# Altium footprint library rcl_PTH.PCBLIB: 348 footprints (part 6 of 22)
Each footprint in its own frame and in the unit in brackets; x right, y up, seen from the top. Pads: shape width x height; smd on the part's side, far side on the other; paste and mask are expansions set on the pad; w line width, h text height; cw(c..) or ccw(c..) is an arc to the next point about the centre after c.
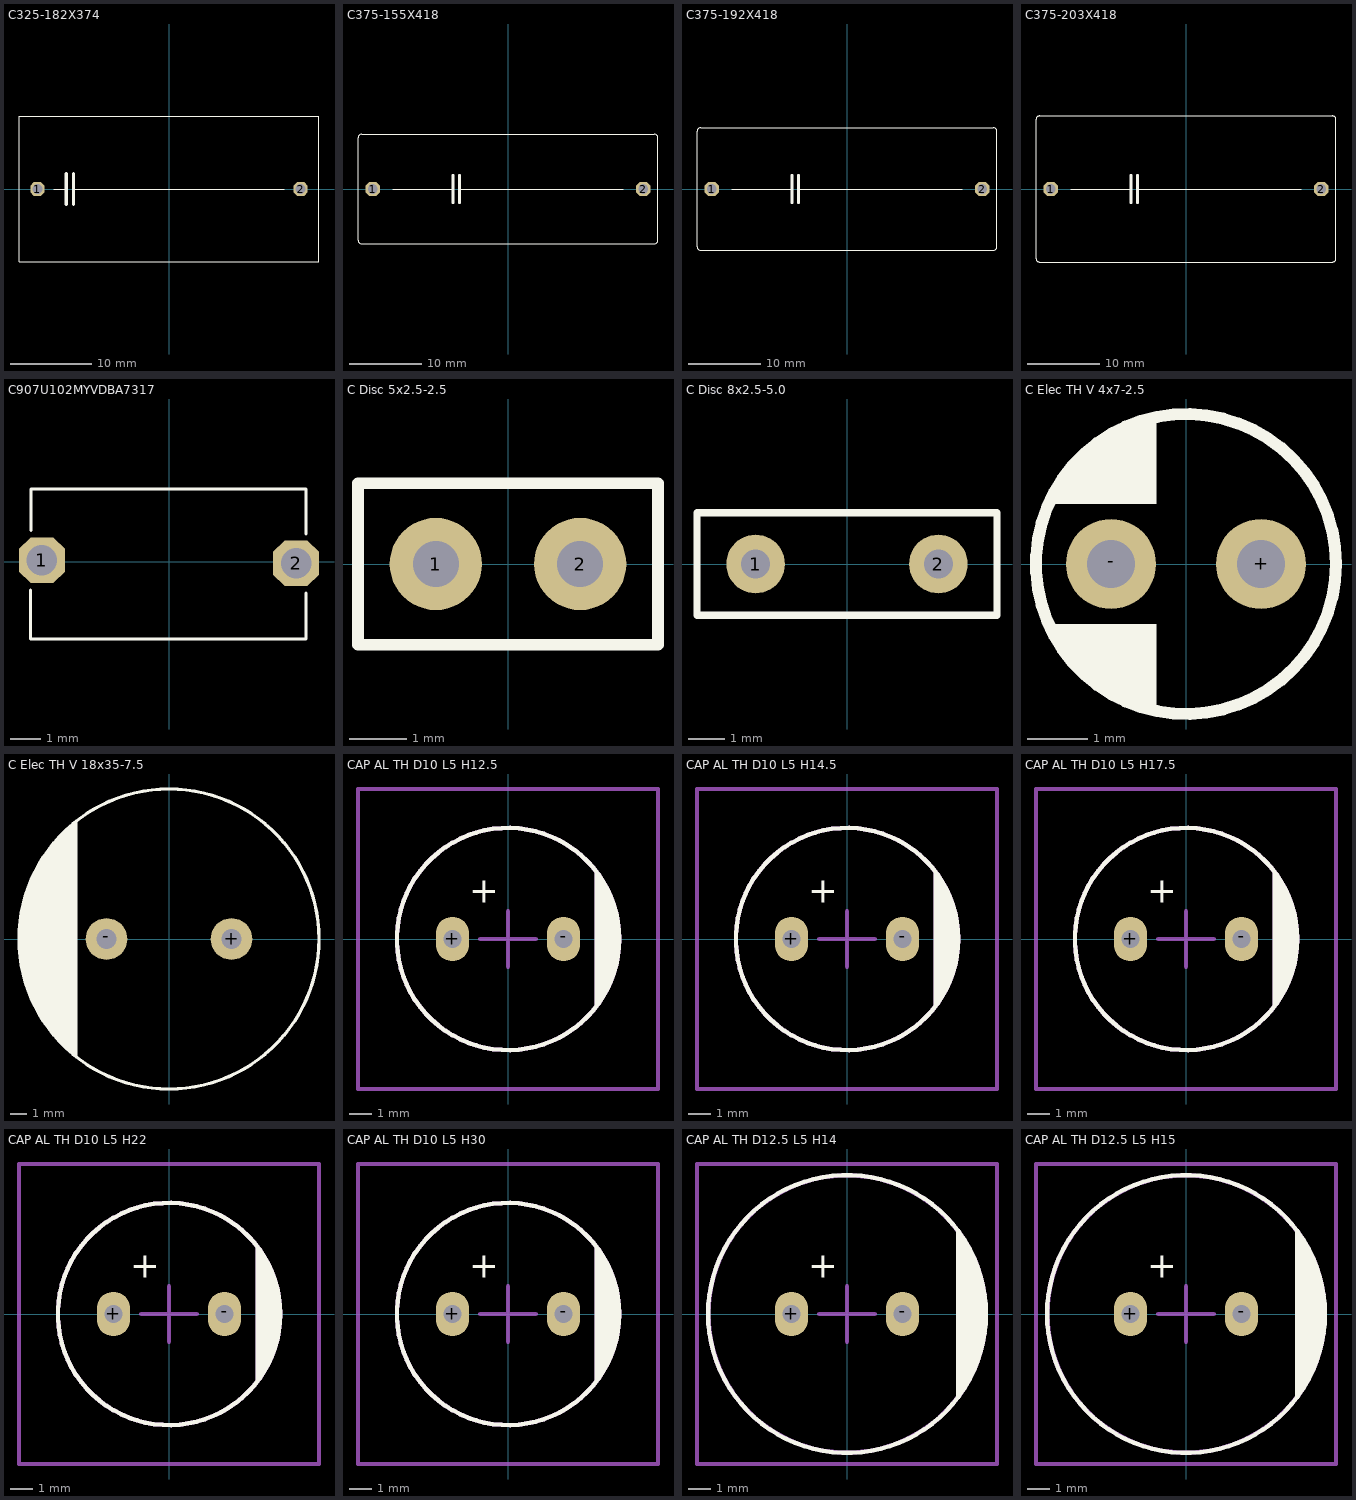
[diagram p5: the footprints below, top view; thin cyan lines are the x and y axes]

## C325-182X374 [mil]
pads (2):
  oct 70.5x70.5 hole 47: 1(-640,0) 2(640,0)
Top Overlay:
  lines w6: -562,0 -500,0 ; -465,0 562,0 ; -730,-355 730,-355 730,355 -730,355 -730,-355
  lines w16: -500,-75 -500,0 -500,75 ; -465,-75 -465,0 -465,75

## C375-155X418 [mil]
pads (2):
  oct 78x78 hole 52: 1(-740,0) 2(740,0)
Top Overlay:
  lines w6: -630,0 -300,0 ; -265,0 630,0 ; -820,-280 ccw(c-800,-280) -800,-300 800,-300 ccw(c800,-280) 820,-280 820,280 ccw(c800,280) 800,300 -800,300 ccw(c-800,280) -820,280 -820,-280
  lines w16: -300,-75 -300,0 -300,75 ; -265,-75 -265,0 -265,75

## C375-192X418 [mil]
pads (2):
  oct 78x78 hole 52: 1(-740,0) 2(740,0)
Top Overlay:
  lines w6: -630,0 -300,0 ; -265,0 630,0 ; -820,-315 ccw(c-800,-315) -800,-335 800,-335 ccw(c800,-315) 820,-315 820,315 ccw(c800,315) 800,335 -800,335 ccw(c-800,315) -820,315 -820,-315
  lines w16: -300,-75 -300,0 -300,75 ; -265,-75 -265,0 -265,75

## C375-203X418 [mil]
pads (2):
  oct 78x78 hole 52: 1(-740,0) 2(740,0)
Top Overlay:
  lines w6: -630,0 -300,0 ; -265,0 630,0 ; -820,-380 ccw(c-800,-380) -800,-400 800,-400 ccw(c800,-380) 820,-380 820,380 ccw(c800,380) 800,400 -800,400 ccw(c-800,380) -820,380 -820,-380
  lines w16: -300,-75 -300,0 -300,75 ; -265,-75 -265,0 -265,75

## C907U102MYVDBA7317 [mil]
pads (2):
  oct 60x60 hole 40: 1(-166.5,2) 2(166.5,-2)
Top Overlay:
  lines w3.94: -181.5,-37 -181.5,-101.52 179.5,-101.52 179.5,-41 ; -180.74,41 -180.74,95.52 179.5,95.52 179.5,36
3D body "C907U102MYVDBA7317.step": height 433.07, standoff -779.53, extent -180.74,-101.52 179.5,95.52

## C Disc 5x2.5-2.5 [mm] "C Disc 5x2.5-2.5"
height 5
pads (2):
  round 1.6 hole 0.8: 1(-1.25,0) 2(1.25,0)
Top Overlay:
  lines w0.2: -2.6,-1.4 -2.6,1.4 2.6,1.4 2.6,-1.4 -2.6,-1.4
3D body "C Disc 5x2.5-2.5-2.STEP": height 5.05, standoff -2.45, extent -2.495,-1.28 2.488,1.281

## C Disc 8x2.5-5.0 [mm] "C Disc 5x2.5-5.0"
height 11
pads (2):
  round 1.6 hole 0.8: 1(-2.5,0) 2(2.5,0)
Top Overlay:
  lines w0.2: -4.1,-1.4 4.1,-1.4 4.1,1.4 -4.1,1.4 -4.1,-1.4
3D body "C Disc 8x2.5-5.0.STEP": height 8.05, standoff -2.45, extent -3.993,-1.287 3.987,1.287

## C Elec TH V 4x7-2.5 [mm] "C Elec TH 4x7 2.5mm pitch"
height 8
pads (2):
  round 1.5 hole 0.8: +(1.25,0) -(-1.25,0)
Top Overlay:
  circle w0.2: c0,0 r2.5
  region: -0.5,-1 -2.2,-1 -2.2,-1.1 -2,-1.5 -1.9,-1.6 -1.6,-1.9 -1.3,-2.1 -0.7,-2.4 -0.5,-2.4
  region: -0.5,2.4 -0.5,1 -2.3,1 -2.1,1.4 -1.7,1.8 -1.5,2 -1.4,2.1 -1.2,2.2 -0.7,2.4
3D body "C Electro TH 4x7 Generic.STEP": height 7.05, standoff -2.55, extent -1.986,-1.981 2,1.982

## C Elec TH V 18x35-7.5 [mm] "C Elec TH 18x35 7.5mm pitch"
height 35
pads (2):
  round 2.5 hole 1.2: +(3.75,0) -(-3.75,0)
Top Overlay:
  circle w0.2: c0,0 r9
  region: -5.5,7.1 -5.5,-7.1 -5.6,-7.1 -7.2,-5.5 -7.2,-5.4 -7.5,-5.1 -7.5,-4.9 -7.7,-4.7 -7.7,-4.5 -8,-4.2 -8,-4 -8.2,-3.8 -8.2,-3.6 -8.4,-3.4 -8.4,-3.2 -8.5,-3.1 -8.5,-2.8 -8.6,-2.7 -8.6,-2.5 -8.7,-2.4 -8.7,-2.2 -8.8,-2.1 -8.8,-1.7 -8.9,-1.6 -8.9,-1.1 -9,-1 -9,0.8 -8.9,0.9 -8.9,1.7 -8.8,1.8 -8.8,2.2 -8.6,2.4 -8.6,2.9 -8.4,3.1 -8.4,3.4 -8.2,3.6 -8.2,3.8 -8,4 -8,4.3 -7.6,4.7 -7.6,4.9 -7.1,5.4 -7.1,5.6 -5.6,7.1
3D body "C Electro TH 18x35x7.5 Generic.STEP": height 35.05, standoff -2.55, extent -9,-8.999 9,8.999

## CAP AL TH D10 L5 H12.5 [mm] "10MM Diameter, 5MM Lead Spacing Aluminium Capacitor"
height 12.5
pads (2):
  oval 1.5x2 hole 0.8: +(-2.5,0) -(2.5,0)
Top Overlay:
  circle w0.2: c0,0 r5
  region: 4,3 4.5,2.25 5,0.75 5,-0.75 4.75,-1.5 4.25,-2.75 4,-3
  lines w0.2: 4,-3 4,3
  text "+" at -1.75,1.25 h2
Mechanical 13:
  circle w0.2: c0,0 r5
  lines w0.2: 4,-3 4,3
Mechanical 15:
  lines w0.2: -1.25,0 1.25,0 ; 0,-1.25 0,1.25 ; -6.75,-6.75 -6.75,0 -6.75,6.75 0,6.75 6.75,6.75 6.75,0 6.75,-6.75 0,-6.75 -6.75,-6.75
3D body "CAP ALTH D-10MM L-5.0MM H-12.5MM.STEP": height 12.7, standoff -3, extent -5,-4.999 5,4.999

## CAP AL TH D10 L5 H14.5 [mm] "10MM Diameter, 5MM Lead Spacing Aluminium Capacitor"
height 14.5
pads (2):
  oval 1.5x2 hole 0.8: +(-2.5,0) -(2.5,0)
Top Overlay:
  circle w0.2: c0,0 r5
  region: 4,3 4.5,2.25 5,0.75 5,-0.75 4.75,-1.5 4.25,-2.75 4,-3
  lines w0.2: 4,-3 4,3
  text "+" at -1.75,1.25 h2
Mechanical 13:
  circle w0.2: c0,0 r5
  lines w0.2: 4,-3 4,3
Mechanical 15:
  lines w0.2: -1.25,0 1.25,0 ; 0,-1.25 0,1.25 ; -6.75,-6.75 -6.75,0 -6.75,6.75 0,6.75 6.75,6.75 6.75,0 6.75,-6.75 0,-6.75 -6.75,-6.75
3D body "CAP ALTH D-10MM L-5.0MM H-14.5MM.STEP": height 14.7, standoff -3, extent -5,-4.996 5,4.997

## CAP AL TH D10 L5 H17.5 [mm] "10MM Diameter, 5MM Lead Spacing Aluminium Capacitor"
height 17.5
pads (2):
  oval 1.5x2 hole 0.8: +(-2.5,0) -(2.5,0)
Top Overlay:
  circle w0.2: c0,0 r5
  region: 4,3 4.5,2.25 5,0.75 5,-0.75 4.75,-1.5 4.25,-2.75 4,-3
  lines w0.2: 4,-3 4,3
  text "+" at -1.75,1.25 h2
Mechanical 13:
  circle w0.2: c0,0 r5
  lines w0.2: 4,-3 4,3
Mechanical 15:
  lines w0.2: -1.25,0 1.25,0 ; 0,-1.25 0,1.25 ; -6.75,-6.75 0,-6.75 6.75,-6.75 6.75,0 6.75,6.75 0,6.75 -6.75,6.75 -6.75,0 -6.75,-6.75
3D body "CAP ALTH D-10MM L-5.0MM H-17.5MM.STEP": height 17.7, standoff -3, extent -5,-4.999 5,4.999

## CAP AL TH D10 L5 H22 [mm] "10MM Diameter, 5MM Lead Spacing Aluminium Capacitor"
height 22
pads (2):
  oval 1.5x2 hole 0.8: +(-2.5,0) -(2.5,0)
Top Overlay:
  circle w0.2: c0,0 r5
  region: 4,3 4.5,2.25 5,0.75 5,-0.75 4.75,-1.5 4.25,-2.75 4,-3
  lines w0.2: 4,-3 4,3
  text "+" at -1.75,1.25 h2
Mechanical 13:
  circle w0.2: c0,0 r5
  lines w0.2: 4,-3 4,3
Mechanical 15:
  lines w0.2: -1.25,0 1.25,0 ; 0,-1.25 0,1.25 ; -6.75,-6.75 0,-6.75 6.75,-6.75 6.75,0 6.75,6.75 0,6.75 -6.75,6.75 -6.75,0 -6.75,-6.75
3D body "CAP ALTH D-10MM L-5.0MM H-22MM.STEP": height 22.2, standoff -3, extent -5,-5 5,5

## CAP AL TH D10 L5 H30 [mm] "10MM Diameter, 5MM Lead Spacing Aluminium Capacitor"
height 30
pads (2):
  oval 1.5x2 hole 0.8: +(-2.5,0) -(2.5,0)
Top Overlay:
  circle w0.2: c0,0 r5
  region: 4,3 4.5,2.25 5,0.75 5,-0.75 4.75,-1.5 4.25,-2.75 4,-3
  lines w0.2: 4,-3 4,3
  text "+" at -1.75,1.25 h2
Mechanical 13:
  circle w0.2: c0,0 r5
  lines w0.2: 4,-3 4,3
Mechanical 15:
  lines w0.2: -1.25,0 1.25,0 ; 0,-1.25 0,1.25 ; -6.75,-6.75 0,-6.75 6.75,-6.75 6.75,0 6.75,6.75 0,6.75 -6.75,6.75 -6.75,0 -6.75,-6.75
3D body "CAP ALTH D-10MM L-5.0MM H-30MM.STEP": height 30.2, standoff -3, extent -5,-4.991 5,4.992

## CAP AL TH D12.5 L5 H14 [mm] "12.5MM Diameter, 5MM Lead Spacing Aluminium Capacitor"
height 14
pads (2):
  oval 1.5x2 hole 0.8: +(-2.5,0) -(2.5,0)
Top Overlay:
  circle w0.2: c0,0 r6.25
  region: 5,-3.75 5,3.75 5.75,2.5 6.25,1 6.25,0 6,-1.5 5.75,-2.5
  lines w0.2: 5,-3.75 5,3.75
  text "+" at -1.75,1.25 h2
Mechanical 13:
  circle w0.2: c0,0 r6.241
  lines w0.2: 5,-3.75 5,3.75
Mechanical 15:
  lines w0.2: -1.25,0 1.25,0 ; 0,-1.25 0,1.25 ; -6.75,-6.75 -6.75,0 -6.75,6.75 0,6.75 6.75,6.75 6.75,0 6.75,-6.75 0,-6.75 -6.75,-6.75
3D body "CAP ALTH D-12.5MM L-5.0MM H-14MM .STEP": height 14.2, standoff -3, extent -6.241,-6.25 6.25,6.25

## CAP AL TH D12.5 L5 H15 [mm] "12.5MM Diameter, 5MM Lead Spacing Aluminium Capacitor"
height 15
pads (2):
  oval 1.5x2 hole 0.8: +(-2.5,0) -(2.5,0)
Top Overlay:
  circle w0.2: c0,0 r6.25
  region: 5,-3.75 5,3.75 5.75,2.5 6.25,1 6.25,0 6,-1.5 5.75,-2.5
  lines w0.2: 5,-3.75 5,3.75
  text "+" at -1.75,1.25 h2
Mechanical 13:
  circle w0.2: c0,0 r6.241
  lines w0.2: 5,-3.75 5,3.75
Mechanical 15:
  lines w0.2: -1.25,0 1.25,0 ; 0,-1.25 0,1.25 ; -6.75,-6.75 -6.75,0 -6.75,6.75 0,6.75 6.75,6.75 6.75,0 6.75,-6.75 0,-6.75 -6.75,-6.75
3D body "CAP ALTH D-12.5MM L-5.0MM H-15MM .STEP": height 15.2, standoff -3, extent -6.25,-6.245 6.25,6.245